# EAGLE library part AXK724147G (library glasses)
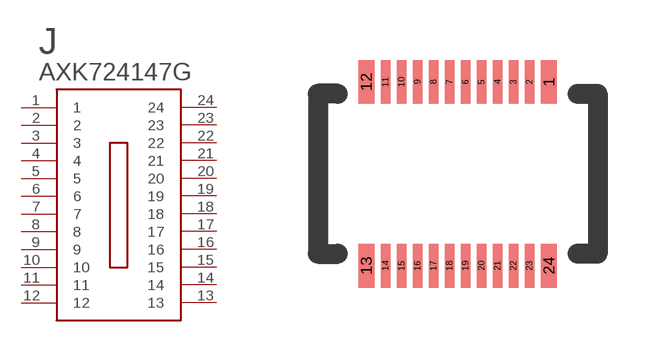
[diagram p1: symbol with the pads of P4-24; footprint P4-24]

Designator prefix J

## AXK724147G  [P4-24]
1  1
2  2
3  3
4  4
5  5
6  6
7  7
8  8
9  9
10  10
11  11
12  12
13  13
14  14
15  15
16  16
17  17
18  18
19  19
20  20
21  21
22  22
23  23
24  24

## Footprint P4-24 (pad centres in mm)
smd 0.4 x 1.1: 1 2.285,2.3; 12 -2.285,2.3; 13 -2.285,-2.3; 24 2.285,-2.3
smd 0.23 x 1.1: 2 1.8,2.3; 3 1.4,2.3; 4 1,2.3; 5 0.6,2.3; 6 0.2,2.3; 7 -0.2,2.3; 8 -0.6,2.3; 9 -1,2.3; 10 -1.4,2.3; 11 -1.8,2.3; 14 -1.8,-2.3; 15 -1.4,-2.3; 16 -1,-2.3; 17 -0.6,-2.3; 18 -0.2,-2.3; 19 0.2,-2.3; 20 0.6,-2.3; 21 1,-2.3; 22 1.4,-2.3; 23 1.8,-2.3